# EAGLE library part LMV324 (library SparkFun-IC-Amplifiers)
IC LMV324 Quad Op Amp Jellybean quad op-amp Datasheet <http://cdn.sparkfun.com/datasheets/Sensors/Sound/LMV324.pdf> SparkFun Products SparkFun Sensor Kit <https://www.sparkfun.com/products/13754> (DEV-13754) SparkFun Inventor's Kit for Arduino 101 <https://www.sparkfun.com/products/13844> (KIT-13844) SparkFun Sound Detector <https://www.sparkfun.com/products/12642> (SEN-12642)
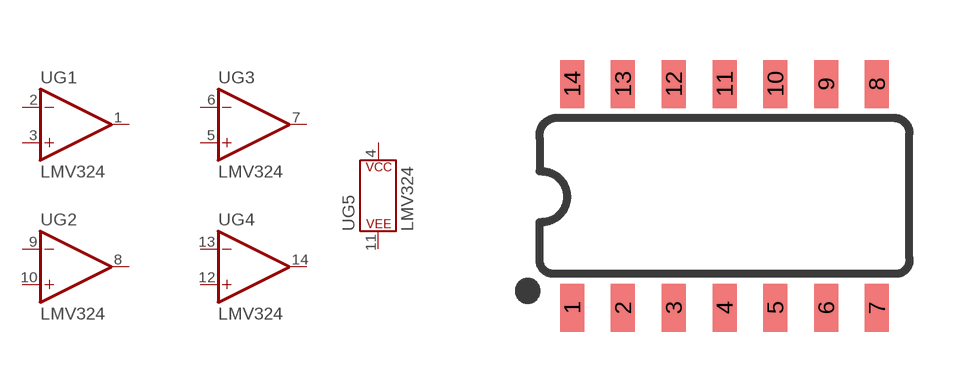
[diagram p5: symbol with the pads of SO14; footprint SO14]

Designator prefix U; gates G1=OP-AMP G2=OP-AMP G3=OP-AMP G4=OP-AMP G5=POWER_CONSORT

## LMV324 (PROD_ID: IC-08227; VALUE: LMV324)  [SO14]
1  G1:OUT  out
2  G1:-IN  in
3  G1:+IN  in
4  G5:P$V+
5  G3:+IN  in
6  G3:-IN  in
7  G3:OUT  out
8  G2:OUT  out
9  G2:-IN  in
10  G2:+IN  in
11  G5:P$V-
12  G4:+IN  in
13  G4:-IN  in
14  G4:OUT  out

## Footprint SO14 (pad centres in mm)
SOIC, 0.15 inch width
smd 0.6 x 1.2: 1 -3.175,-2.8; 2 -1.905,-2.8; 3 -0.635,-2.8; 4 0.635,-2.8; 5 1.905,-2.8; 6 3.175,-2.8; 7 4.445,-2.8; 8 4.445,2.8; 9 3.175,2.8; 10 1.905,2.8; 11 0.635,2.8; 12 -0.635,2.8; 13 -1.905,2.8; 14 -3.175,2.8